# Altium footprint library PMIC.PcbLib: 11 footprints
Each footprint in its own frame and in the unit in brackets; x right, y up, seen from the top. Pads: shape width x height; smd on the part's side, far side on the other; paste and mask are expansions set on the pad; w line width, h text height; cw(c..) or ccw(c..) is an arc to the next point about the centre after c.
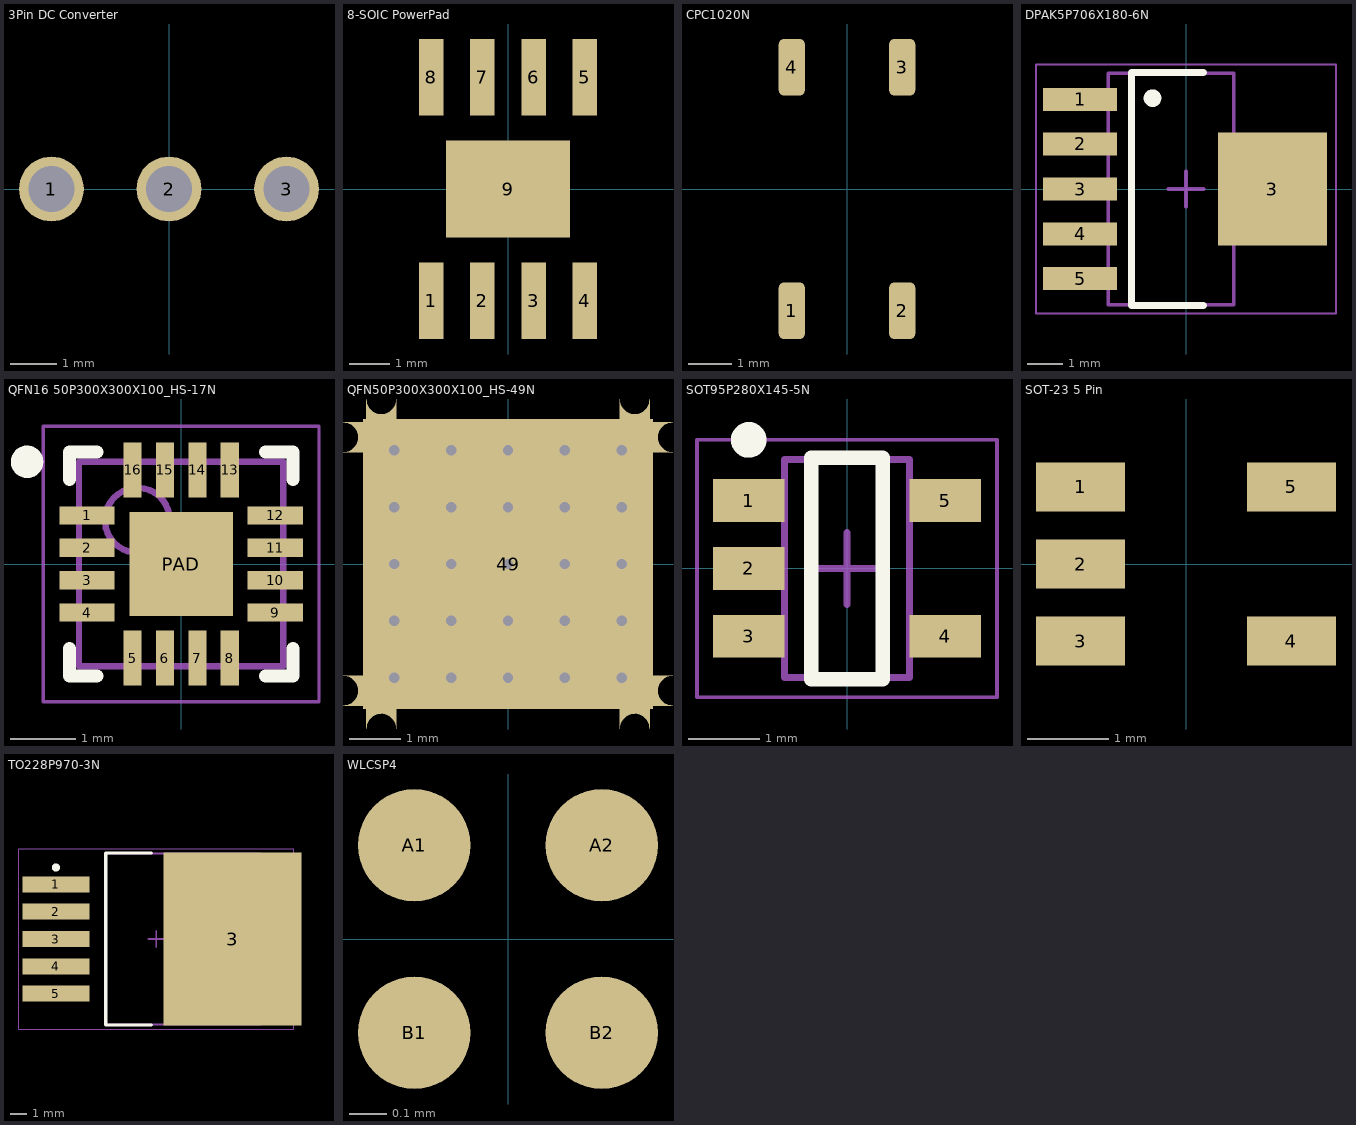
[diagram p0: the footprints below, top view; thin cyan lines are the x and y axes]

## 3Pin DC Converter [mm]
pads (3):
  round 1.4 hole 1 mask+0.051: 1(-2.54,0) 2(0,0) 3(2.54,0)
3D body: height 10.5, standoff 0, extent -5.8,-2 5.8,6.5

## 8-SOIC PowerPad [mm]
pads (9):
  rect 0.61x1.91 smd mask+0.051: 1(-1.905,-2.78) 2(-0.635,-2.78) 3(0.635,-2.78) 4(1.905,-2.78) 5(1.905,2.78) 6(0.635,2.78) 7(-0.635,2.78) 8(-1.905,2.78)
  rect 3.1x2.41 smd mask+0.051: 9(0,0)
3D body: height 1.5, standoff 0, extent -2.54,-2.032 2.54,2.032

## 16 QFN 3x3 [mm]

## CPC1020N [mm]
pads (4):
  rrect40% 0.6x1.3 smd mask+0.051: 1(-1.27,-2.8) 2(1.27,-2.8) 3(1.27,2.8) 4(-1.27,2.8)
3D body: height 2.2, standoff 0, extent -2,-1.9 2,1.9

## DPAK5P706X180-6N [mm] "TO, 6-Pads, Body 4.88x6.63mm (max), IPC Medium Density"
height 1.8
pads (6):
  rect 2.1x0.65 smd: 1(-3,2.54) 2(-3,1.275) 3(-3,0) 4(-3,-1.27) 5(-3,-2.54)
  rect 3.1x3.2 smd: 3(2.45,0)
Top Overlay:
  circle w0.25: c-0.95,2.575 r0.125
  lines w0.2: 0.5,-3.3 -1.55,-3.3 -1.55,3.3 0.5,3.3
Mechanical 13:
  lines w0.1: -2.2,-3.275 1.35,-3.275 1.35,3.275 -2.2,3.275 -2.2,-3.275
Mechanical 15:
  lines w0.05: -4.25,-3.525 4.25,-3.525 4.25,3.525 -4.25,3.525 -4.25,-3.525
  lines w0.1: -0.5,0 0.5,0 ; 0,-0.5 0,0.5
3D body "DPAK5P706X180-6N.step": height 1.82, standoff 0, extent -3.96,-3.275 3.1,3.275

## QFN16 50P300X300X100_HS-17N [mm] "QFN, 16-Leads, Body 3.00x3.00mm, Pitch 0.50mm, Thermal Pad 1.66x1.66mm, IPC Medium Density"
height 1
pads (17):
  rect 0.85x0.28 smd mask+0.051: 1(-1.45,0.75) 2(-1.45,0.25) 3(-1.45,-0.25) 4(-1.45,-0.75) 9(1.45,-0.75) 10(1.45,-0.25) 11(1.45,0.25) 12(1.45,0.75)
  rect 0.28x0.85 smd mask+0.051: 5(-0.75,-1.45) 6(-0.25,-1.45) 7(0.25,-1.45) 8(0.75,-1.45) 13(0.75,1.45) 14(0.25,1.45) 15(-0.25,1.45) 16(-0.75,1.45)
  rect 1.6x1.6 smd mask+0.051: PAD(0,0)
Top Overlay:
  circle w0.25: c-2.375,1.575 r0.125
  lines w0.2: -1.725,-1.3 -1.725,-1.725 -1.3,-1.725 ; -1.725,1.3 -1.725,1.725 -1.3,1.725 ; 1.3,-1.725 1.725,-1.725 1.725,-1.3 ; 1.3,1.725 1.725,1.725 1.725,1.3
Mechanical 13:
  circle w0.1: c-0.675,0.675 r0.5
  lines w0.1: -1.575,-1.575 1.575,-1.575 1.575,1.575 -1.575,1.575 -1.575,-1.575
Mechanical 15:
  lines w0.05: -2.125,-2.125 2.125,-2.125 2.125,2.125 -2.125,2.125 -2.125,-2.125
  lines w0.1: -0.5,0 0.5,0 ; 0,-0.5 0,0.5
3D body: height 1, standoff 0, extent -1.575,-1.575 1.575,1.575

## QFN50P300X300X100_HS-49N [mm] "QFN, 48-Leads, Body 3.00x3.00mm, Pitch 0.50mm, Thermal Pad 5.60x5.60mm, IPC Medium Density"
height 1
pads (49):
  oval 0x0.3 smd: 1(-2.45,2.75) 2(-2.45,2.25) 3(-2.45,1.75) 4(-2.45,1.25) 5(-2.45,0.75) 6(-2.45,0.25) 7(-2.45,-0.25) 8(-2.45,-0.75) 9(-2.45,-1.25) 10(-2.45,-1.75) 11(-2.45,-2.25) 12(-2.45,-2.75) 25(2.45,-2.75) 26(2.45,-2.25) 27(2.45,-1.75) 28(2.45,-1.25) 29(2.45,-0.75) 30(2.45,-0.25) 31(2.45,0.25) 32(2.45,0.75) 33(2.45,1.25) 34(2.45,1.75) 35(2.45,2.25) 36(2.45,2.75)
  oval 0.3x0 smd: 13(-2.75,-2.45) 14(-2.25,-2.45) 15(-1.75,-2.45) 16(-1.25,-2.45) 17(-0.75,-2.45) 18(-0.25,-2.45) 19(0.25,-2.45) 20(0.75,-2.45) 21(1.25,-2.45) 22(1.75,-2.45) 23(2.25,-2.45) 24(2.75,-2.45) 37(2.75,2.45) 38(2.25,2.45) 39(1.75,2.45) 40(1.25,2.45) 41(0.75,2.45) 42(0.25,2.45) 43(-0.25,2.45) 44(-0.75,2.45) 45(-1.25,2.45) 46(-1.75,2.45) 47(-2.25,2.45) 48(-2.75,2.45)
  rect 5.6x5.6 smd: 49(0,0)
via -2.2,2.2 diameter 0.5 hole 0.2
via -1.1,2.2 diameter 0.5 hole 0.2
via 0,2.2 diameter 0.5 hole 0.2
via 1.1,2.2 diameter 0.5 hole 0.2
via 2.2,2.2 diameter 0.5 hole 0.2
via -2.2,1.1 diameter 0.5 hole 0.2
via -1.1,1.1 diameter 0.5 hole 0.2
via 0,1.1 diameter 0.5 hole 0.2
via 1.1,1.1 diameter 0.5 hole 0.2
via 2.2,1.1 diameter 0.5 hole 0.2
via -2.2,0 diameter 0.5 hole 0.2
via -1.1,0 diameter 0.5 hole 0.2
via 0,0 diameter 0.5 hole 0.2
via 1.1,0 diameter 0.5 hole 0.2
via 2.2,0 diameter 0.5 hole 0.2
via -2.2,-1.1 diameter 0.5 hole 0.2
via -1.1,-1.1 diameter 0.5 hole 0.2
via 0,-1.1 diameter 0.5 hole 0.2
via 1.1,-1.1 diameter 0.5 hole 0.2
via 2.2,-1.1 diameter 0.5 hole 0.2
via -2.2,-2.2 diameter 0.5 hole 0.2
via -1.1,-2.2 diameter 0.5 hole 0.2
via 0,-2.2 diameter 0.5 hole 0.2
via 1.1,-2.2 diameter 0.5 hole 0.2
via 2.2,-2.2 diameter 0.5 hole 0.2
Top Overlay:
  circle w0.25: c-2.375,1.575 r0.125
  lines w0.2: -1.725,-1.25 -1.725,-1.725 -1.25,-1.725 ; -1.725,1.25 -1.725,1.725 -1.25,1.725 ; 1.25,-1.725 1.725,-1.725 1.725,-1.25 ; 1.25,1.725 1.725,1.725 1.725,1.25
Mechanical 13:
  circle w0.1: c-0.675,0.675 r0.5
  lines w0.1: -1.575,-1.575 -1.575,1.575 1.575,1.575 1.575,-1.575 -1.575,-1.575
Mechanical 15:
  lines w0.05: -2.125,-2.125 -2.125,2.125 2.125,2.125 2.125,-2.125 -2.125,-2.125
  lines w0.1: -0.5,0 0.5,0 ; 0,-0.5 0,0.5
3D body: height 1, standoff 0, extent -1.575,-1.575 1.575,1.575

## SOT95P280X145-5N [mm] "SOT23, 5-Leads, Body 2.90x2.80mm, Pitch 0.95mm, IPC Medium Density"
height 1.45
pads (5):
  rect 1x0.6 smd: 1(-1.375,0.95) 2(-1.375,0) 3(-1.375,-0.95) 4(1.375,-0.95) 5(1.375,0.95)
Top Overlay:
  circle w0.25: c-1.375,1.8 r0.125
  lines w0.2: -0.5,-1.55 0.5,-1.55 0.5,1.55 -0.5,1.55 -0.5,-1.55
Mechanical 13:
  lines w0.1: -0.875,-1.525 -0.875,1.525 0.875,1.525 0.875,-1.525 -0.875,-1.525
Mechanical 15:
  lines w0.05: -2.1,-1.8 -2.1,1.8 2.1,1.8 2.1,-1.8 -2.1,-1.8
  lines w0.1: -0.5,0 0.5,0 ; 0,-0.5 0,0.5
3D body "SOT95P280X145-5N.step": height 1.45, standoff 0, extent -1.5,-1.525 1.5,1.525

## SOT-23 5 Pin [mm]
pads (5):
  rect 1.1x0.6 smd mask+0.076: 1(-1.3,0.95) 2(-1.3,0) 3(-1.3,-0.95) 4(1.3,-0.95) 5(1.3,0.95)
3D body "SOT23_5.stp": height 0.92, standoff 0.01, extent -1.602,-1.5 1.602,1.5

## TO228P970-3N [mm] "REG104FA-3.3KTTT"
height 4.83
pads (6):
  rect 4.15x1 smd: 1(-89.25,37.4) 2(-89.25,35.7) 3(-89.25,34) 4(-89.25,32.3) 5(-89.25,30.6)
  rect 8.6x10.75 smd: 3(-78.25,34)
Top Overlay:
  circle w0.25: c-89.25,38.45 r0.125
  lines w0.2: -83.3,28.65 -86.15,28.65 -86.15,39.35 -83.3,39.35
Mechanical 13:
  lines w0.1: -86.15,28.675 -76.5,28.675 -76.5,39.325 -86.15,39.325 -86.15,28.675
Mechanical 15:
  lines w0.05: -91.55,28.375 -74.45,28.375 -74.45,39.625 -91.55,39.625 -91.55,28.375
  lines w0.1: -83.5,34 -82.5,34 ; -83,33.5 -83,34.5
3D body "TO228P970-3N.step": height 4.83, standoff 0, extent -90.17,28.675 -74.93,39.325

## WLCSP4 [mm] "4 Pin BGA 0.5mm"
pads (4):
  round 0.3 smd mask+0.038: A1(-0.25,0.25) A2(0.25,0.25) B1(-0.25,-0.25) B2(0.25,-0.25)
3D body: height 0.55, standoff 0, extent -0.5,-0.5 0.5,0.5